# Altium footprint library PcbLib1.PcbLib: 1 footprints
Each footprint in its own frame and in the unit in brackets; x right, y up, seen from the top. Pads: shape width x height; smd on the part's side, far side on the other; paste and mask are expansions set on the pad; w line width, h text height; cw(c..) or ccw(c..) is an arc to the next point about the centre after c.
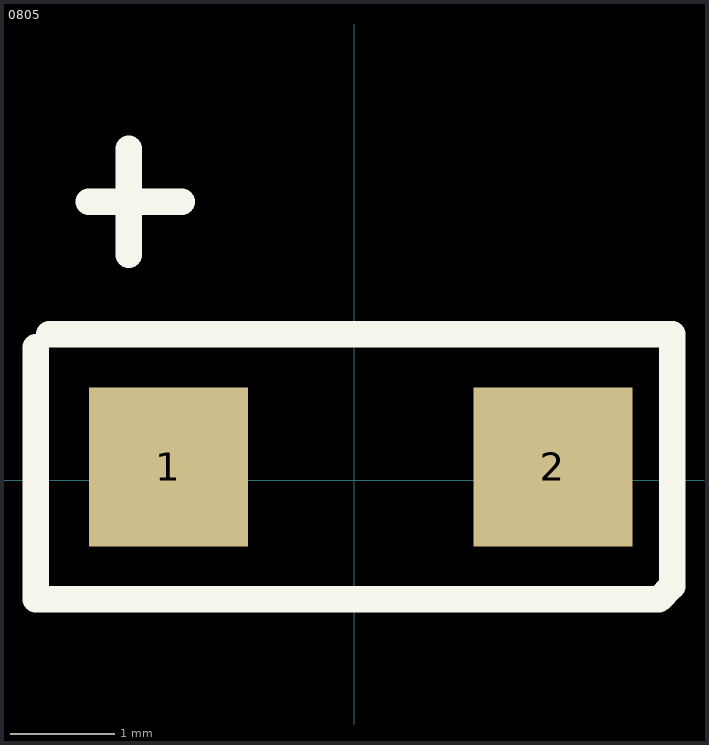
[diagram p0: the footprint, top view; thin cyan lines are the x and y axes]

## 0805 [mil]
pads (2):
  rect 60x60 smd: 1(-70,5) 2(75,5)
Top Overlay:
  lines w10: -120,50 -120,-45 115,-45 120,-40 120,55 -115,55 ; -100,105 -65,105 ; -85,85 -85,125